# Altium footprint library praline.PcbLib: 57 footprints (part 4 of 4)
Each footprint in its own frame and in the unit in brackets; x right, y up, seen from the top. Pads: shape width x height; smd on the part's side, far side on the other; paste and mask are expansions set on the pad; w line width, h text height; cw(c..) or ccw(c..) is an arc to the next point about the centre after c.
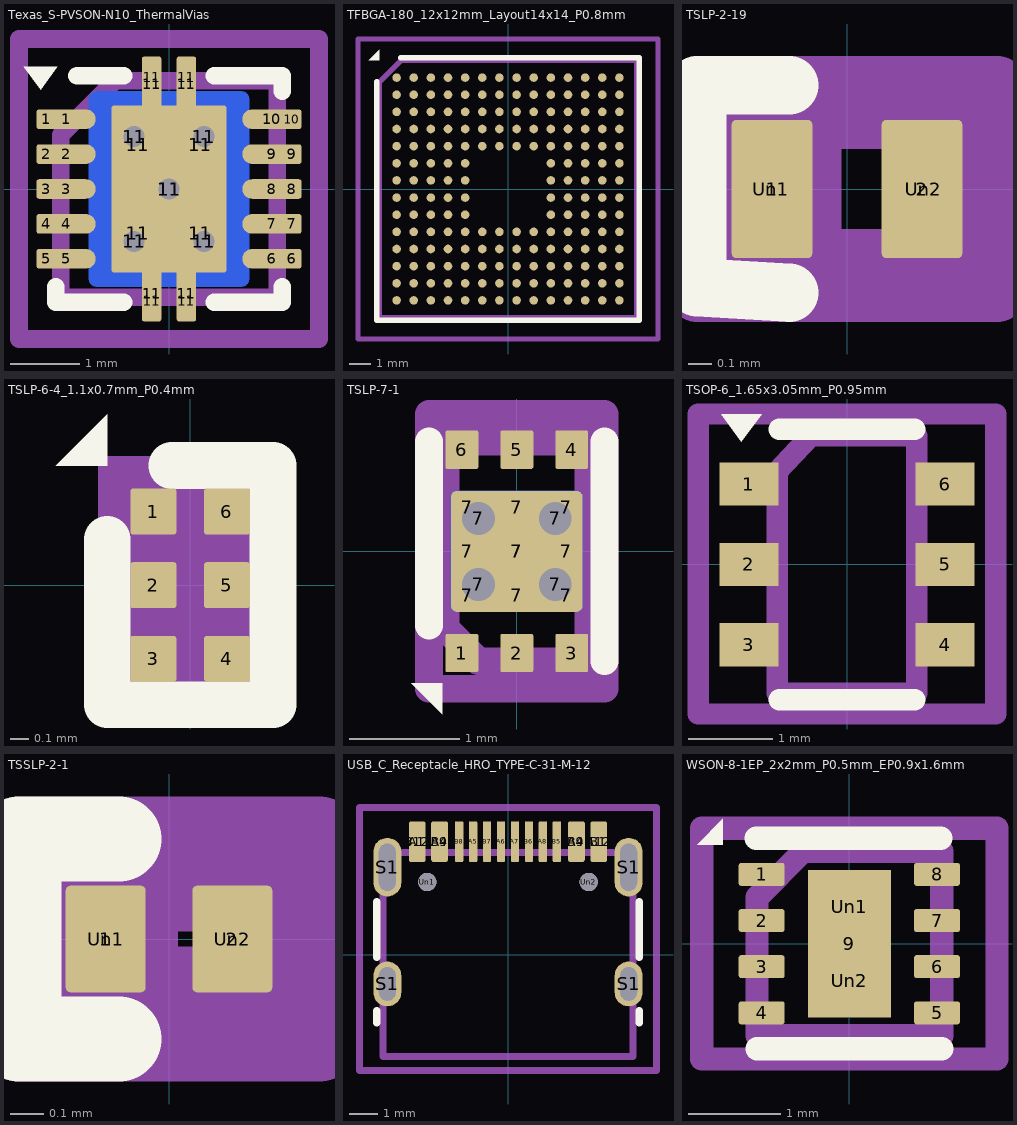
[diagram p3: the footprints below, top view; thin cyan lines are the x and y axes]

## Texas_S-PVSON-N10_ThermalVias [mm]
pads (39):
  rrect25% 0.28x0.28 smd paste-0.025 mask+0.05: 1(-1.76,1) 2(-1.76,0.5) 3(-1.76,0) 4(-1.76,-0.5) 5(-1.76,-1) 6(1.76,-1) 7(1.76,-0.5) 8(1.76,0) 9(1.76,0.5) 10(1.76,1)
  rrect100% 0.85x0.28 smd paste-0.025 mask+0.05: 1(-1.475,1) 2(-1.475,0.5) 3(-1.475,0) 4(-1.475,-0.5) 5(-1.475,-1) 6(1.475,-1) 7(1.475,-0.5) 8(1.475,0) 9(1.475,0.5) 10(1.475,1)
  round 0.6 hole 0.3 mask+0.05: 11(-0.5,-0.75) 11(-0.5,0.75) 11(0,0) 11(0.5,-0.75) 11(0.5,0.75)
  rect 0.68x1.05 smd mask+0.05: 11(-0.45,-0.635) 11(-0.45,0.635) 11(0.45,-0.635) 11(0.45,0.635)
  rect 0.26x0.5 smd mask+0.05: 11(-0.25,-1.6) 11(-0.25,1.6) 11(0.25,-1.6) 11(0.25,1.6)
  rrect25% 0.28x0.8 smd paste-0.8 mask+0.05: 11(-0.25,-1.5) 11(-0.25,1.5) 11(0.25,-1.5) 11(0.25,1.5)
  rrect5% 1.65x2.4 smd paste-2.4 mask+0.05: 11(0,0)
  rrect10% 2.3x2.8 smd far side paste-2.8 mask-2.8: 11(0,0)
Top Overlay:
  region: -1.84,1.42 -2.08,1.75 -1.6,1.75
  lines w0.254: -1.625,-1.4 -1.625,-1.625 -0.65,-1.625 ; -1.32,1.625 -0.65,1.625 ; 0.65,-1.625 1.625,-1.625 1.625,-1.4 ; 0.65,1.625 1.625,1.625 1.625,1.4
Mechanical 6:
  lines w0.254: -1.55,-1.55 1.55,-1.55 1.55,1.55 -0.775,1.55 -1.55,0.775 -1.55,-1.55
  text "'.Designator'" at -0.195,0.456 h0.7
Mechanical 15:
  lines w0.254: -2.15,-2.15 -2.15,2.15 2.15,2.15 2.15,-2.15 -2.15,-2.15

## TFBGA-180_12x12mm_Layout14x14_P0.8mm [mm]
pads (180):
  round 0.4 smd mask+0.05: A1(-5.2,5.2) A2(-4.4,5.2) A3(-3.6,5.2) A4(-2.8,5.2) A5(-2,5.2) A6(-1.2,5.2) A7(-0.4,5.2) A8(0.4,5.2) A9(1.2,5.2) A10(2,5.2) A11(2.8,5.2) A12(3.6,5.2) A13(4.4,5.2) A14(5.2,5.2) B1(-5.2,4.4) B2(-4.4,4.4) B3(-3.6,4.4) B4(-2.8,4.4) B5(-2,4.4) B6(-1.2,4.4) B7(-0.4,4.4) B8(0.4,4.4) B9(1.2,4.4) B10(2,4.4) B11(2.8,4.4) B12(3.6,4.4) B13(4.4,4.4) B14(5.2,4.4) C1(-5.2,3.6) C2(-4.4,3.6) C3(-3.6,3.6) C4(-2.8,3.6) C5(-2,3.6) C6(-1.2,3.6) C7(-0.4,3.6) C8(0.4,3.6) C9(1.2,3.6) C10(2,3.6) C11(2.8,3.6) C12(3.6,3.6) C13(4.4,3.6) C14(5.2,3.6) D1(-5.2,2.8) D2(-4.4,2.8) D3(-3.6,2.8) D4(-2.8,2.8) D5(-2,2.8) D6(-1.2,2.8) D7(-0.4,2.8) D8(0.4,2.8) D9(1.2,2.8) D10(2,2.8) D11(2.8,2.8) D12(3.6,2.8) D13(4.4,2.8) D14(5.2,2.8) E1(-5.2,2) E2(-4.4,2) E3(-3.6,2) E4(-2.8,2) E5(-2,2) E6(-1.2,2) E7(-0.4,2) E8(0.4,2) E9(1.2,2) E10(2,2) E11(2.8,2) E12(3.6,2) E13(4.4,2) E14(5.2,2) F1(-5.2,1.2) F2(-4.4,1.2) F3(-3.6,1.2) F4(-2.8,1.2) F5(-2,1.2) F10(2,1.2) F11(2.8,1.2) F12(3.6,1.2) F13(4.4,1.2) F14(5.2,1.2) G1(-5.2,0.4) G2(-4.4,0.4) G3(-3.6,0.4) G4(-2.8,0.4) G5(-2,0.4) G10(2,0.4) G11(2.8,0.4) G12(3.6,0.4) G13(4.4,0.4) G14(5.2,0.4) H1(-5.2,-0.4) H2(-4.4,-0.4) H3(-3.6,-0.4) H4(-2.8,-0.4) H5(-2,-0.4) H10(2,-0.4) H11(2.8,-0.4) H12(3.6,-0.4) H13(4.4,-0.4) H14(5.2,-0.4) J1(-5.2,-1.2) J2(-4.4,-1.2) J3(-3.6,-1.2) J4(-2.8,-1.2) J5(-2,-1.2) J10(2,-1.2) J11(2.8,-1.2) J12(3.6,-1.2) J13(4.4,-1.2) J14(5.2,-1.2) K1(-5.2,-2) K2(-4.4,-2) K3(-3.6,-2) K4(-2.8,-2) K5(-2,-2) K6(-1.2,-2) K7(-0.4,-2) K8(0.4,-2) K9(1.2,-2) K10(2,-2) K11(2.8,-2) K12(3.6,-2) K13(4.4,-2) K14(5.2,-2) L1(-5.2,-2.8) L2(-4.4,-2.8) L3(-3.6,-2.8) L4(-2.8,-2.8) L5(-2,-2.8) L6(-1.2,-2.8) L7(-0.4,-2.8) L8(0.4,-2.8) L9(1.2,-2.8) L10(2,-2.8) L11(2.8,-2.8) L12(3.6,-2.8) L13(4.4,-2.8) L14(5.2,-2.8) M1(-5.2,-3.6) M2(-4.4,-3.6) M3(-3.6,-3.6) M4(-2.8,-3.6) M5(-2,-3.6) M6(-1.2,-3.6) M7(-0.4,-3.6) M8(0.4,-3.6) M9(1.2,-3.6) M10(2,-3.6) M11(2.8,-3.6) M12(3.6,-3.6) M13(4.4,-3.6) M14(5.2,-3.6) N1(-5.2,-4.4) N2(-4.4,-4.4) N3(-3.6,-4.4) N4(-2.8,-4.4) N5(-2,-4.4) N6(-1.2,-4.4) N7(-0.4,-4.4) N8(0.4,-4.4) N9(1.2,-4.4) N10(2,-4.4) N11(2.8,-4.4) N12(3.6,-4.4) N13(4.4,-4.4) N14(5.2,-4.4) P1(-5.2,-5.2) P2(-4.4,-5.2) P3(-3.6,-5.2) P4(-2.8,-5.2) P5(-2,-5.2) P6(-1.2,-5.2) P7(-0.4,-5.2) P8(0.4,-5.2) P9(1.2,-5.2) P10(2,-5.2) P11(2.8,-5.2) P12(3.6,-5.2) P13(4.4,-5.2) P14(5.2,-5.2)
Top Overlay:
  region: -6,6 -6.5,6 -6,6.5
  lines w0.254: -6.12,5 -6.12,-6.12 6.12,-6.12 6.12,6.12 -5,6.12
Mechanical 6:
  lines w0.254: -6,-6 6,-6 6,6 -5,6 -6,5 -6,-6
  text "'.Designator'" at 0.28,-0.651 h1
Mechanical 15:
  lines w0.254: -7,-7 7,-7 7,7 -7,7 -7,-7

## TSLP-2-19 [mm]
pads (4):
  rrect12% 0.35x0.6 smd paste-0.6 mask+0.05: 1(-0.325,0) 2(0.325,0)
  rect 0.28x0.45 on Top Paste paste-0.05 mask-0.45: Un1(-0.33,0) Un2(0.33,0)
Top Overlay:
  lines w0.254: -0.25,-0.45 -0.65,-0.425 -0.65,0.45 -0.25,0.45
Mechanical 6:
  lines w0.254: -0.5,-0.3 -0.5,0.3 ; -0.5,-0.3 0.5,-0.3 0.5,0.3 -0.5,0.3 ; -0.5,-0.3 -0.5,0.3 ; -0.5,-0.3 -0.15,-0.3 -0.15,0.3 -0.5,0.3
  text "'.Designator'" at -0.164,-0.768 h0.25
Mechanical 15:
  lines w0.254: -0.65,-0.45 -0.65,0.45 0.65,0.45 0.65,-0.45 -0.65,-0.45

## TSLP-6-4_1.1x0.7mm_P0.4mm [mm]
pads (6):
  rrect12% 0.25x0.25 smd mask+0.05: 1(-0.2,0.4) 2(-0.2,0) 3(-0.2,-0.4) 4(0.2,-0.4) 5(0.2,0) 6(0.2,0.4)
Top Overlay:
  region: -0.45,0.65 -0.73,0.65 -0.45,0.93
  lines w0.254: -0.45,0.25 -0.45,-0.65 0.45,-0.65 0.45,0.65 -0.1,0.65
Mechanical 6:
  lines w0.254: -0.35,-0.55 -0.35,0.3 -0.1,0.55 0.35,0.55 0.35,-0.55 -0.35,-0.55
  text "'.Designator'" at 0.11,-0.168 h0.4
Mechanical 15:
  region: 0.5,-0.7 -0.5,-0.7 -0.5,0.7 0.5,0.7

## TSLP-7-1 [mm]
pads (21):
  rrect12% 0.3x0.35 smd mask+0.05: 1(-0.5,-0.925) 2(0,-0.925) 3(0.5,-0.925) 4(0.5,0.925) 5(0,0.925) 6(-0.5,0.925)
  rrect37% 0.3x0.3 smd mask-0.3: 7(-0.45,-0.4) 7(-0.45,0.4) 7(0.45,-0.4) 7(0.45,0.4)
  rect 0.3x0.3 smd mask-0.3: 7(-0.45,0) 7(0,-0.4) 7(0,0) 7(0,0.4) 7(0.45,0)
  round 0.4 hole 0.3 mask+0.05: 7(-0.35,-0.3) 7(-0.35,0.3) 7(0.35,-0.3) 7(0.35,0.3)
  rrect10% 1.2x1.1 smd paste-1.2 mask+0.05: 7(0,0)
  rrect10% 1.2x1.1 smd far side paste-1.2 mask-1.2: 7(0,0)
Top Overlay:
  region: -0.68,-1.48 -0.96,-1.2 -0.68,-1.2
  lines w0.254: -0.8,-0.675 -0.8,1 ; 0.8,-1 0.8,1
Mechanical 6:
  lines w0.254: -0.65,-0.7 -0.35,-1 0.65,-1 0.65,1 -0.65,1 -0.65,-0.7
  text "'.Designator'" at -0.14,0.329 h0.5
Mechanical 15:
  lines w0.254: -0.8,-1.25 0.8,-1.25 0.8,1.25 -0.8,1.25 -0.8,-1.25

## TSOP-6_1.65x3.05mm_P0.95mm [mm]
pads (6):
  rect 0.7x0.51 smd mask+0.05: 1(-1.16,0.95) 2(-1.16,0) 3(-1.16,-0.95) 4(1.16,-0.95) 5(1.16,0) 6(1.16,0.95)
Top Overlay:
  region: -1.25,1.45 -1.49,1.78 -1.01,1.78
  lines w0.254: -0.8,-1.6 0.8,-1.6 ; -0.8,1.6 0.8,1.6
Mechanical 6:
  lines w0.254: -0.825,-1.525 -0.825,1.1 -0.425,1.525 0.825,1.525 0.825,-1.525 -0.825,-1.525
  text "'.Designator'" at 0.14,-0.329 h0.5
Mechanical 15:
  lines w0.254: -1.76,-1.77 -1.76,1.78 1.76,1.78 1.76,-1.77 -1.76,-1.77

## TSSLP-2-1 [mm]
pads (4):
  rrect12% 0.24x0.32 smd paste-0.32 mask+0.05: 1(-0.19,0) 2(0.19,0)
  rrect50% 0.19x0.27 on Top Paste paste-0.05 mask-0.27: Un1(-0.19,0) Un2(0.19,0)
Top Overlay:
  lines w0.254: -0.15,-0.3 -0.45,-0.3 -0.45,0.3 -0.15,0.3
Mechanical 6:
  lines w0.254: -0.3,-0.15 0.3,-0.15 0.3,0.15 -0.3,0.15 ; -0.3,-0.15 -0.3,0.15 ; -0.3,-0.15 -0.3,0.15 ; -0.3,-0.15 -0.1,-0.15 -0.1,0.15 -0.3,0.15
  text "'.Designator'" at -0.162,-0.519 h0.25
Mechanical 15:
  lines w0.254: -0.45,-0.3 -0.45,0.3 0.45,0.3 0.45,-0.3 -0.45,-0.3

## USB_C_Receptacle_HRO_TYPE-C-31-M-12 [mm]
pads (22):
  rrect25% 0.6x1.45 smd mask+0.05: A1(-3.25,4.045) A4(-2.45,4.045) A9(2.45,4.045) A12(3.25,4.045) B1(3.25,4.045) B4(2.45,4.045) B9(-2.45,4.045) B12(-3.25,4.045)
  rrect25% 0.3x1.45 smd mask+0.05: A5(-1.25,4.045) A6(-0.25,4.045) A7(0.25,4.045) A8(1.25,4.045) B5(1.75,4.045) B6(0.75,4.045) B7(-0.75,4.045) B8(-1.75,4.045)
  rrect100% 1x1.6 hole 1.2 slot 0.6 at 0 deg paste-2539.97 mask+0.05: S1(-4.32,-1.05) S1(4.32,-1.05)
  rrect100% 1x2.1 hole 1.7 slot 0.6 at 0 deg paste-2539.97 mask+0.05: S1(-4.32,3.13) S1(4.32,3.13)
  round 0.65 hole 0.65 mask+0.05: Un1(-2.89,2.6) Un2(2.89,2.6)
Top Overlay:
  lines w0.254: -4.7,-2.45 -4.7,-2 ; -4.7,-0.1 -4.7,1.9 ; 4.7,-2.45 4.7,-2 ; 4.7,-0.1 4.7,1.9
Mechanical 6:
  lines w0.254: -4.47,-3.65 -4.47,3.65 4.47,3.65 4.47,-3.65 -4.47,-3.65
  text "'.Designator'" at -0.404,-0.276 h1
Mechanical 15:
  lines w0.254: -5.32,-4.15 -5.32,5.27 5.32,5.27 5.32,-4.15 -5.32,-4.15

## WSON-8-1EP_2x2mm_P0.5mm_EP0.9x1.6mm [mm]
pads (11):
  rrect25% 0.5x0.25 smd mask+0.05: 1(-0.95,0.75) 2(-0.95,0.25) 3(-0.95,-0.25) 4(-0.95,-0.75) 5(0.95,-0.75) 6(0.95,-0.25) 7(0.95,0.25) 8(0.95,0.75)
  rect 0.9x1.6 smd paste-1.6 mask+0.05: 9(0,0)
  rect 0.75x0.65 on Top Paste mask-0.75: Un1(0,0.4) Un2(0,-0.4)
Top Overlay:
  region: -1.37,1.07 -1.65,1.07 -1.37,1.35
  lines w0.254: -1.01,1.14 0.99,1.14 ; -1,-1.14 1,-1.14
Mechanical 6:
  lines w0.254: -1,-1 1,-1 1,1 -0.5,1 -1,0.5 -1,-1
  text "'.Designator'" at 0.453,0.195 h0.7
Mechanical 15:
  lines w0.254: -1.6,-1.25 1.6,-1.25 1.6,1.25 -1.6,1.25 -1.6,-1.25